# Altium schematic symbol library NE555P.SchLib: 1 symbol
Pins are listed as number, name and electrical type; pins without a type are passive.

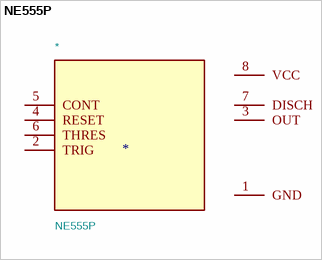
[diagram p0: symbol NE555P]

## NE555P
designator *  value NE555P
\n                        \n                            Single Precision Timer\n                        \n; MF: Texas; Footprint: NE555P:DIP794W45P254L959H508Q8; Description_: \n                        \n                            Single Precision Timer\n                        \n; Package: PDIP-8 Texas; Price: None; SnapEDA_Link: https://www.snapeda.com/parts/NE555P/Texas+Instruments/view-part/?ref=snap; MP: NE555P; Availability: In Stock; Check_prices: https://www.snapeda.com/parts/NE555P/Texas+Instruments/view-part/?ref=eda
footprint DIP794W45P254L959H508Q8
pins: 1 GND, 2 TRIG, 3 OUT, 4 RESET, 5 CONT, 6 THRES, 7 DISCH, 8 VCC